# EAGLE library part SPI_DISPLAY (library Project_2)
1.8" Color TFT LCD display
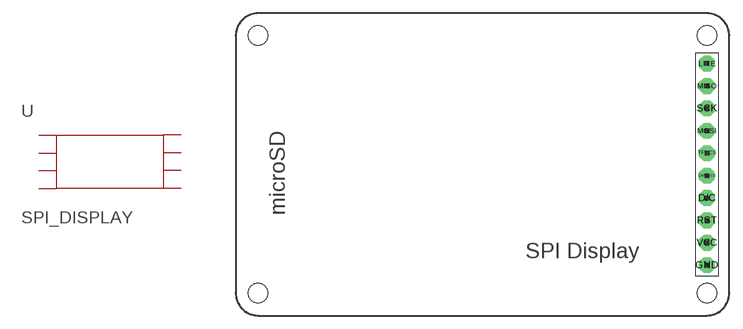
[diagram p0: symbol with the pads of SPI_DISPLAY; footprint SPI_DISPLAY]

Designator prefix U

## SPI_DISPLAY  [SPI_DISPLAY]
D/C  D/C
GND  GND
MISO  MISO
MOSI  MOSI
RST  RST
SCK  SCK
TFT-CS  CS
VCC  VCC

## Footprint SPI_DISPLAY (pad centres in mm)
Package generated by make-group2pac.ulp from: C:/Users/zqzhu/Downloads/jdt1800-bob.brd at: 11/22/2021 10:30 PM
drill 1.016 pad 1.778 octagon: CARD-CS 25.4,-1.27; D/C 25.4,-3.81; GND 25.4,-11.43; LITE 25.4,11.43; MISO 25.4,8.89; MOSI 25.4,3.81; RST 25.4,-6.35; SCK 25.4,6.35; TFT-CS 25.4,1.27; VCC 25.4,-8.89
hole 2.2 at -25.4,14.605
hole 2.2 at 25.4,14.605
hole 2.2 at -25.4,-14.605
hole 2.2 at 25.4,-14.605